# EAGLE library part BMP_280_SENSOR (library Project2)
GY-BMP 280 PRESSURE SENSOR.
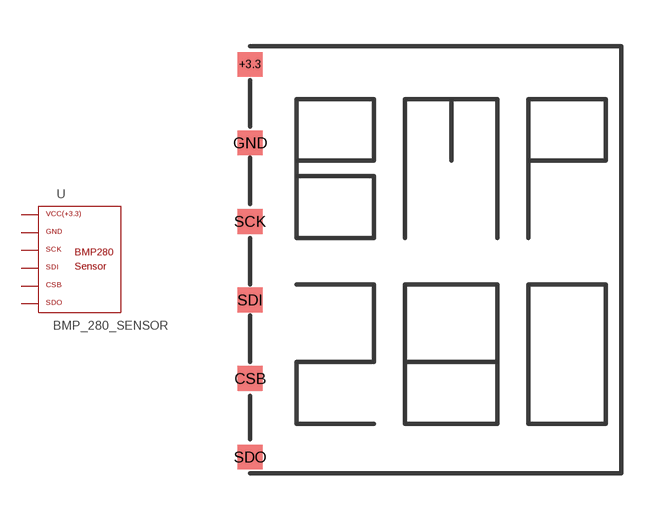
[diagram p2: symbol with the pads of BMP_280_SENSOR; footprint BMP_280_SENSOR]

Designator prefix -

## BMP_280_SENSOR  [BMP_280_SENSOR]
+3.3  VCC_+3.3
CSB  CSB
GND  GND
SCK  SCK
SDI  SDI
SDO  SDO

## Footprint BMP_280_SENSOR (pad centres in mm)
smd 0.8 x 0.8: +3.3 0,7.62; CSB 0,-2.54; GND 0,5.08; SCK 0,2.54; SDI 0,0; SDO 0,-5.08